# Altium footprint library vga.PcbLib: 95 footprints (part 1 of 7)
Each footprint in its own frame and in the unit in brackets; x right, y up, seen from the top. Pads: shape width x height; smd on the part's side, far side on the other; paste and mask are expansions set on the pad; w line width, h text height; cw(c..) or ccw(c..) is an arc to the next point about the centre after c.
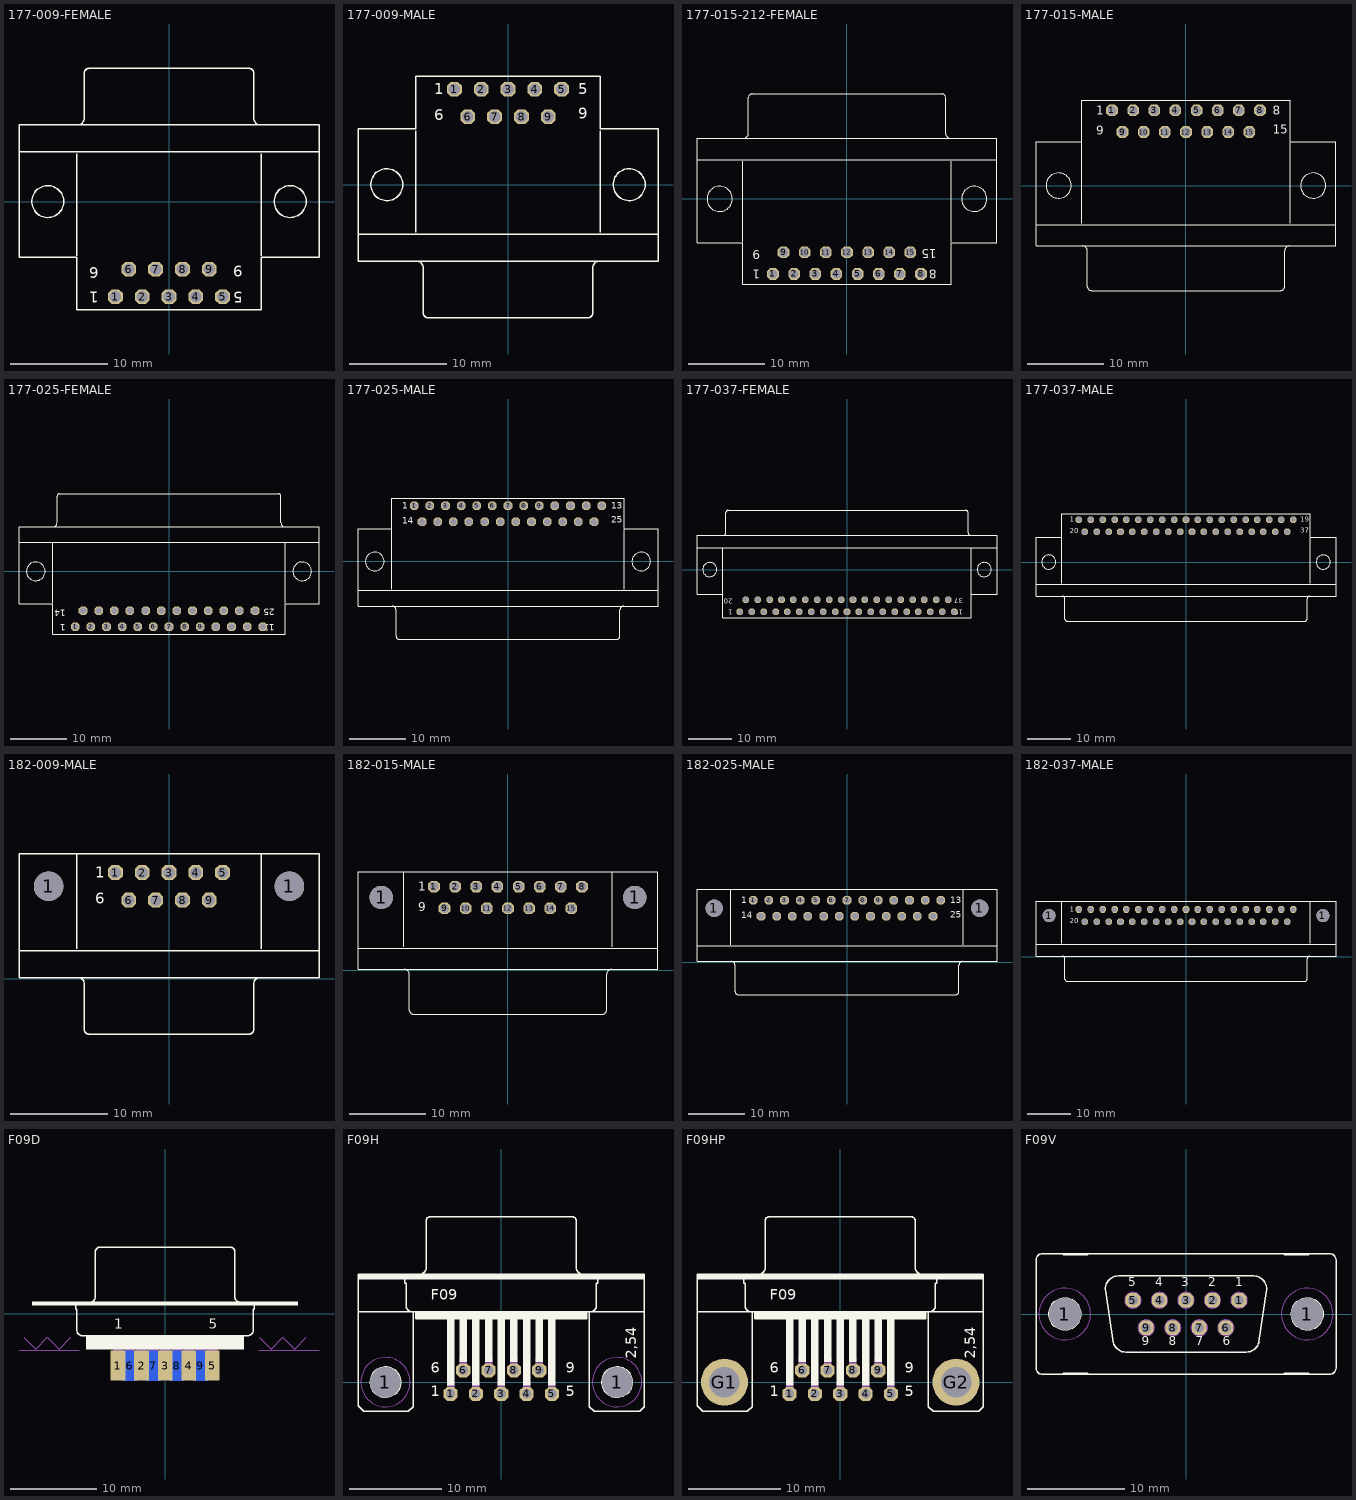
[diagram p0: the footprints below, top view; thin cyan lines are the x and y axes]

## 177-009-FEMALE [mil]
pads (9):
  oct 60x60 hole 47: 1(-218,-387.41) 2(-109,-387.41) 3(0,-387.41) 4(109,-387.41) 5(218,-387.41) 6(-163.5,-275.45) 7(-54.5,-275.45) 8(55,-275.45) 9(164,-275.45)
Top Overlay:
  circle w6: c493,0 r65
  circle w6: c-493,0 r65
  lines w6: -375,-219.96 -375,194 ; -370,312 ccw(c-370,337) -345,337 -345,522 cw(c-325,522) -325,542 325,542 cw(c325,522) 345,522 345,337 ccw(c370,337) 370,312 ; 375,-219.96 375,194 ; 610,202 -610,202 ; -610,202 -610,312 610,312 610,-226.38 375,-226.38 375,-439.96 -375,-439.96 -375,-226.38 -610,-226.38 -610,202
  text "9" at 300,-245.2 h77.5
  text "6" at -285,-250.2 h77.5
  text "1" at -285,-350.2 h77.5
  text "5" at 300,-350.2 h77.5
Mechanical 2:
  text ">NAME" at 350,-450 h108.5
Mechanical 4:
  text ">VALUE" at 300,-50 h108.5

## 177-009-MALE [mil]
pads (9):
  oct 60x60 hole 47: 1(-218,388) 2(-109,388) 3(0,388) 4(109,388) 5(218,388) 6(-163.5,276) 7(-54.5,276) 8(55,276) 9(164,276)
Top Overlay:
  circle w6: c493,0 r65
  circle w6: c-493,0 r65
  lines w6: -610,-201.38 610,-201.38 ; -375,-193.62 -375,220 ; -370,-311.38 cw(c-370,-336.38) -345,-336.38 -345,-521.38 ccw(c-325,-521.38) -325,-541.38 325,-541.38 ccw(c325,-521.38) 345,-521.38 345,-336.38 cw(c370,-336.38) 370,-311.38 ; 375,-193.62 375,220 ; 610,-201.38 610,227 375,227 375,440 -375,440 -375,227 -610,227 -610,-311.38 610,-311.38 610,-201.38
  text "1" at -300,351 h77.5
  text "5" at 285,351 h77.5
  text "9" at 285,251 h77.5
  text "6" at -300,246 h77.5
Mechanical 2:
  text ">NAME" at -350,450 h108.5
Mechanical 4:
  text ">VALUE" at -300,50 h108.5

## 177-015-212-FEMALE [mil]
pads (15):
  oct 60x60 hole 47: 1(-381.5,-387.41) 2(-272.5,-387.41) 3(-163.5,-387.41) 4(-54.5,-387.41) 5(55,-387.41) 6(164,-387.41) 7(273,-387.41) 8(382,-387.41) 9(-327,-275.45) 10(-218,-275.45) 11(-109,-275.45) 12(0,-275.45) 13(109,-275.45) 14(218,-275.45) 15(327,-275.45)
Top Overlay:
  circle w6: c-656.5,0 r65
  circle w6: c657,0 r65
  lines w6: -538.5,-219.96 -538.5,194 ; -533.5,312 ccw(c-533.5,337) -508.5,337 -508.5,522 cw(c-488.5,522) -488.5,542 489,542 cw(c489,522) 509,522 509,337 ccw(c534,337) 534,312 ; 539,-219.96 539,194 ; 774,202 -773.5,202 ; -773.5,202 -773.5,-226.38 -538.5,-226.38 -538.5,-439.96 539,-439.96 539,-226.38 774,-226.38 774,312 -773.5,312 -773.5,202
  text "8" at 464,-350.2 h77.5
  text "1" at -448.5,-350.2 h77.5
  text "9" at -448.5,-250.2 h77.5
  text "15" at 464,-245.2 h77.5
Mechanical 2:
  text ">NAME" at 514,-450 h108.5
Mechanical 4:
  text ">VALUE" at 464,-50 h108.5

## 177-015-MALE [mil]
pads (15):
  oct 60x60 hole 47: 1(-381.5,388) 2(-272.5,388) 3(-163.5,388) 4(-54.5,388) 5(55,388) 6(164,388) 7(273,388) 8(382,388) 9(-327,276) 10(-218,276) 11(-109,276) 12(0,276) 13(109,276) 14(218,276) 15(327,276)
Top Overlay:
  circle w6: c657,0 r65
  circle w6: c-656.5,0 r65
  lines w6: -773.5,-201.38 774,-201.38 ; -538.5,-193.62 -538.5,220 ; -533.5,-311.38 cw(c-533.5,-336.38) -508.5,-336.38 -508.5,-521.38 ccw(c-488.5,-521.38) -488.5,-541.38 489,-541.38 ccw(c489,-521.38) 509,-521.38 509,-336.38 cw(c534,-336.38) 534,-311.38 ; 539,-193.62 539,220 ; 774,-201.38 774,227 539,227 539,440 -538.5,440 -538.5,227 -773.5,227 -773.5,-311.38 774,-311.38 774,-201.38
  text "1" at -463.5,351 h77.5
  text "8" at 449,351 h77.5
  text "15" at 449,251 h77.5
  text "9" at -463.5,246 h77.5
Mechanical 2:
  text ">NAME" at -513.5,450 h108.5
Mechanical 4:
  text ">VALUE" at -463.5,50 h108.5

## 177-025-FEMALE [mil]
pads (25):
  oct 60x60 hole 47: 1(-654,-387.41) 2(-545,-387.41) 3(-436,-387.41) 4(-327,-387.41) 5(-218,-387.41) 6(-109,-387.41) 7(0,-387.41) 8(109,-387.41) 9(218,-387.41) 10(327,-387.41) 11(436,-387.41) 12(545,-387.41) 13(654,-387.41) 14(-599.5,-275.45) 15(-490.5,-275.45) 16(-381.5,-275.45) 17(-272.5,-275.45) 18(-163.5,-275.45) 19(-54.5,-275.45) 20(55,-275.45) 21(164,-275.45) 22(273,-275.45) 23(382,-275.45) 24(491,-275.45) 25(600,-275.45)
Top Overlay:
  circle w6: c-929,0 r65
  circle w6: c929,0 r65
  lines w6: -811,-219.96 -811,194 ; -806,312 ccw(c-806,337) -781,337 -781,522 cw(c-761,522) -761,542 761,542 cw(c761,522) 781,522 781,337 ccw(c806,337) 806,312 ; 811,-219.96 811,194 ; 1046,202 -1046,202 ; -1046,202 -1046,-226.38 -811,-226.38 -811,-439.96 811,-439.96 811,-226.38 1046,-226.38 1046,312 -1046,312 -1046,202
  text "13" at 736,-350.2 h77.5
  text "1" at -721,-350.2 h77.5
  text "14" at -721,-250.2 h77.5
  text "25" at 736,-245.2 h77.5
Mechanical 2:
  text ">NAME" at 786,-450 h108.5
Mechanical 4:
  text ">VALUE" at 736,-50 h108.5

## 177-025-MALE [mil]
pads (25):
  oct 60x60 hole 47: 1(-654,388) 2(-545,388) 3(-436,388) 4(-327,388) 5(-218,388) 6(-109,388) 7(0,388) 8(109,388) 9(218,388) 10(327,388) 11(436,388) 12(545,388) 13(654,388) 14(-599.5,276) 15(-490.5,276) 16(-381.5,276) 17(-272.5,276) 18(-163.5,276) 19(-54.5,276) 20(55,276) 21(164,276) 22(273,276) 23(382,276) 24(491,276) 25(600,276)
Top Overlay:
  circle w6: c929,0 r65
  circle w6: c-929,0 r65
  lines w6: -1046,-201.38 1046,-201.38 ; -811,-193.62 -811,220 ; -806,-311.38 cw(c-806,-336.38) -781,-336.38 -781,-521.38 ccw(c-761,-521.38) -761,-541.38 761,-541.38 ccw(c761,-521.38) 781,-521.38 781,-336.38 cw(c806,-336.38) 806,-311.38 ; 811,-193.62 811,220 ; 1046,-201.38 1046,227 811,227 811,440 -811,440 -811,227 -1046,227 -1046,-311.38 1046,-311.38 1046,-201.38
  text "1" at -736,351 h77.5
  text "13" at 721,351 h77.5
  text "25" at 721,251 h77.5
  text "14" at -736,246 h77.5
Mechanical 2:
  text ">NAME" at -786,450 h108.5
Mechanical 4:
  text ">VALUE" at -736,50 h108.5

## 177-037-FEMALE [mil]
pads (37):
  oct 60x60 hole 47: 1(-981,-387.41) 2(-872,-387.41) 3(-763,-387.41) 4(-654,-387.41) 5(-545,-387.41) 6(-436,-387.41) 7(-327,-387.41) 8(-218,-387.41) 9(-109,-387.41) 10(0,-387.41) 11(109,-387.41) 12(218,-387.41) 13(327,-387.41) 14(436,-387.41) 15(545,-387.41) 16(654,-387.41) 17(763,-387.41) 18(872,-387.41) 19(981,-387.41) 20(-926.5,-275.45) 21(-817.5,-275.45) 22(-708.5,-275.45) 23(-599.5,-275.45) 24(-490.5,-275.45) 25(-381.5,-275.45) 26(-272.5,-275.45) 27(-163.5,-275.45) 28(-54.5,-275.45) 29(55,-275.45) 30(164,-275.45) 31(273,-275.45) 32(382,-275.45) 33(491,-275.45) 34(600,-275.45) 35(709,-275.45) 36(818,-275.45) 37(927,-275.45)
Top Overlay:
  circle w6: c-1256,0 r65
  circle w6: c1256,0 r65
  lines w6: -1138,-219.96 -1138,194 ; -1133,312 ccw(c-1133,337) -1108,337 -1108,522 cw(c-1088,522) -1088,542 1088,542 cw(c1088,522) 1108,522 1108,337 ccw(c1133,337) 1133,312 ; 1138,-219.96 1138,194 ; 1373,202 -1373,202 ; -1373,202 -1373,-226.38 -1138,-226.38 -1138,-439.96 1138,-439.96 1138,-226.38 1373,-226.38 1373,312 -1373,312 -1373,202
  text "19" at 1063,-350.2 h77.5
  text "1" at -1048,-350.2 h77.5
  text "20" at -1048,-250.2 h77.5
  text "37" at 1063,-245.2 h77.5
Mechanical 2:
  text ">NAME" at 1113,-450 h108.5
Mechanical 4:
  text ">VALUE" at 1063,-50 h108.5

## 177-037-MALE [mil]
pads (37):
  oct 60x60 hole 47: 1(-981,388) 2(-872,388) 3(-763,388) 4(-654,388) 5(-545,388) 6(-436,388) 7(-327,388) 8(-218,388) 9(-109,388) 10(0,388) 11(109,388) 12(218,388) 13(327,388) 14(436,388) 15(545,388) 16(654,388) 17(763,388) 18(872,388) 19(981,388) 20(-926.5,276) 21(-817.5,276) 22(-708.5,276) 23(-599.5,276) 24(-490.5,276) 25(-381.5,276) 26(-272.5,276) 27(-163.5,276) 28(-54.5,276) 29(55,276) 30(164,276) 31(273,276) 32(382,276) 33(491,276) 34(600,276) 35(709,276) 36(818,276) 37(927,276)
Top Overlay:
  circle w6: c1256,0 r65
  circle w6: c-1256,0 r65
  lines w6: -1373,-201.38 1373,-201.38 ; -1138,-193.62 -1138,220 ; -1133,-311.38 cw(c-1133,-336.38) -1108,-336.38 -1108,-521.38 ccw(c-1088,-521.38) -1088,-541.38 1088,-541.38 ccw(c1088,-521.38) 1108,-521.38 1108,-336.38 cw(c1133,-336.38) 1133,-311.38 ; 1138,-193.62 1138,220 ; 1373,-201.38 1373,227 1138,227 1138,440 -1138,440 -1138,227 -1373,227 -1373,-311.38 1373,-311.38 1373,-201.38
  text "1" at -1063,351 h77.5
  text "19" at 1048,351 h77.5
  text "37" at 1048,251 h77.5
  text "20" at -1063,246 h77.5
Mechanical 2:
  text ">NAME" at -1113,450 h108.5
Mechanical 4:
  text ">VALUE" at -1063,50 h108.5

## 182-009-MALE [mil]
pads (11):
  round 120 hole 120: 1(-490,375) 1(490,375)
  oct 60x60 hole 47: 1(-218,431) 2(-109,431) 3(0,431) 4(109,431) 5(218,431) 6(-163.5,319) 7(-54.5,319) 8(55,319) 9(164,319)
Top Overlay:
  lines w6: -610,114 610,114 ; -610,507 -610,4 610,4 610,114 ; -610,508 610,508 ; -375,122 -375,507 ; -370,4 cw(c-370.21,-21.21) -345,-21.42 -345,-206.42 ccw(c-325,-206.42) -325,-226.42 325,-226.42 ccw(c325,-206.42) 345,-206.42 345,-21.42 cw(c370.21,-21.21) 370,4 ; 375,122 375,507 ; 610,507 610,114
  text "1" at -300,393 h77.5
  text "6" at -300,288 h77.5
Mechanical 2:
  text ">NAME" at -364,525 h108.5
Mechanical 4:
  text ">VALUE" at 86,525 h108.5

## 182-015-MALE [mil]
pads (17):
  round 120 hole 120: 1(-653.5,375) 1(654,375)
  oct 60x60 hole 47: 1(-381.5,431) 2(-272.5,431) 3(-163.5,431) 4(-54.5,431) 5(55,431) 6(164,431) 7(273,431) 8(382,431) 9(-327,319) 10(-218,319) 11(-109,319) 12(0,319) 13(109,319) 14(218,319) 15(327,319)
Top Overlay:
  lines w6: -773.5,114 774,114 ; -773.5,507 -773.5,4 774,4 774,114 ; -773.5,508 774,508 ; -538.5,122 -538.5,507 ; -533.5,4 cw(c-533.71,-21.21) -508.5,-21.42 -508.5,-206.42 ccw(c-488.5,-206.42) -488.5,-226.42 489,-226.42 ccw(c489,-206.42) 509,-206.42 509,-21.42 cw(c534.21,-21.21) 534,4 ; 539,122 539,507 ; 774,507 774,114
  text "1" at -463.5,393 h77.5
  text "9" at -463.5,288 h77.5
Mechanical 2:
  text ">NAME" at -527.5,525 h108.5
Mechanical 4:
  text ">VALUE" at -77.5,525 h108.5

## 182-025-MALE [mil]
pads (27):
  round 120 hole 120: 1(-926,375) 1(926,375)
  oct 60x60 hole 47: 1(-654,431) 2(-545,431) 3(-436,431) 4(-327,431) 5(-218,431) 6(-109,431) 7(0,431) 8(109,431) 9(218,431) 10(327,431) 11(436,431) 12(545,431) 13(654,431) 14(-599.5,319) 15(-490.5,319) 16(-381.5,319) 17(-272.5,319) 18(-163.5,319) 19(-54.5,319) 20(55,319) 21(164,319) 22(273,319) 23(382,319) 24(491,319) 25(600,319)
Top Overlay:
  lines w6: -1046,114 1046,114 ; -1046,507 -1046,4 1046,4 1046,114 ; -1046,508 1046,508 ; -811,122 -811,507 ; -806,4 cw(c-806.21,-21.21) -781,-21.42 -781,-206.42 ccw(c-761,-206.42) -761,-226.42 761,-226.42 ccw(c761,-206.42) 781,-206.42 781,-21.42 cw(c806.21,-21.21) 806,4 ; 811,122 811,507 ; 1046,507 1046,114
  text "1" at -736,393 h77.5
  text "13" at 721,393 h77.5
  text "25" at 721,293 h77.5
  text "14" at -736,288 h77.5
Mechanical 2:
  text ">NAME" at -800,525 h108.5
Mechanical 4:
  text ">VALUE" at -350,525 h108.5

## 182-037-MALE [mil]
pads (39):
  round 120 hole 120: 1(-1253,375) 1(1253,375)
  oct 60x60 hole 47: 1(-981,431) 2(-872,431) 3(-763,431) 4(-654,431) 5(-545,431) 6(-436,431) 7(-327,431) 8(-218,431) 9(-109,431) 10(0,431) 11(109,431) 12(218,431) 13(327,431) 14(436,431) 15(545,431) 16(654,431) 17(763,431) 18(872,431) 19(981,431) 20(-926.5,319) 21(-817.5,319) 22(-708.5,319) 23(-599.5,319) 24(-490.5,319) 25(-381.5,319) 26(-272.5,319) 27(-163.5,319) 28(-54.5,319) 29(55,319) 30(164,319) 31(273,319) 32(382,319) 33(491,319) 34(600,319) 35(709,319) 36(818,319) 37(927,319)
Top Overlay:
  lines w6: -1373,114 1373,114 ; -1373,507 -1373,4 1373,4 1373,114 ; -1373,508 1373,508 ; -1138,122 -1138,507 ; -1133,4 cw(c-1133.21,-21.21) -1108,-21.42 -1108,-206.42 ccw(c-1088,-206.42) -1088,-226.42 1088,-226.42 ccw(c1088,-206.42) 1108,-206.42 1108,-21.42 cw(c1133.21,-21.21) 1133,4 ; 1138,122 1138,507 ; 1373,507 1373,114
  text "1" at -1063,393 h77.5
  text "20" at -1063,288 h77.5
Mechanical 2:
  text ">NAME" at -1127,525 h108.5
Mechanical 4:
  text ">VALUE" at -677,525 h108.5

## F09D [mil]
pads (9):
  rect 67x138 smd: 1(-215.99,-237.98) 2(-108.01,-237.98) 3(0,-237.99) 4(109,-237.98) 5(216,-237.98)
  rect 67x138 smd far side: 6(-162,-238) 7(-54,-238) 8(54,-238) 9(162,-238)
Top Overlay:
  rectangle: -610,37 610,57
  rectangle: -362.2,-163.78 363,-100.79
  lines w6: -410,40 -410,20 -405,20 -405,-75 ccw(c-380,-75) -380,-100 ; -380.75,-100 381,-100 ; -345,53 ccw(c-345,78) -320,78 -320,285 cw(c-300,285) -300,305 300,305 cw(c300,285) 320,285 320,78 ccw(c345,78) 345,53 ; 380,-100 ccw(c380,-75) 405,-75 405,20 410,20 410,40
  text "1" at -233.07,-85.77 h77.5
  text "5" at 201,-85.77 h77.5
Bottom Overlay:
  text "9" at 179,-86.48 h77.5
  text "6" at -140.82,-86.48 h77.5
Mechanical 2:
  text ">NAME" at -350,-400 h108.5
Mechanical 4:
  text ">VALUE" at 50,-400 h108.5
Mechanical 13:
  lines w0: -670,-167 -394,-167 ; -648,-108 -594,-162 -540,-108 -486,-162 -432,-108 ; 430,-167 706,-167 ; 432,-108 486,-162 540,-108 594,-162 648,-108
  text "Board" at 450,-100 h77.5
  text "Board" at -650,-100 h77.5
Mechanical 16:
  rectangle: -239.62,-258.27 -192.38,-159.84
  rectangle: -131.62,-258.27 -84.38,-159.84
  rectangle: -23.62,-258.27 24,-159.84
  rectangle: 85,-258.27 132,-159.84
  rectangle: 193,-258.27 240,-159.84
  text "F09D" at -300,235 h77.5
Mechanical 30:
  rectangle: -185.62,-258.27 -138.38,-159.84
  rectangle: -77.62,-258.27 -30.38,-159.84
  rectangle: 31,-258.27 78,-159.84
  rectangle: 139,-258.27 186,-159.84

## F09H [mil]
pads (11):
  round 130 hole 130: 1(-493,0) 1(493,0)
  oct 60x60 hole 40: 1(-216,-50) 2(-108,-50) 3(0,-50) 4(108,-50) 5(216,-50) 6(-162,50) 7(-54,50) 8(54,50) 9(162,50)
Top Overlay:
  circle w6: c-493,0 r65
  circle w6: c493,0 r65
  rectangle: -365,270 365,300
  rectangle: -610,440 610,460
  rectangle: -232,-15 -200,270
  rectangle: -178,85 -146,270
  rectangle: -124,-15 -92,270
  rectangle: -70,85 -38,270
  rectangle: -16,-15 16,270
  rectangle: 38,85 70,270
  rectangle: 92,-15 124,270
  rectangle: 146,85 178,270
  rectangle: 200,-15 232,270
  lines w6: -380,300 cw(c-380,325) -405,325 -405,420 -410,420 -410,440 ; -345,460 ccw(c-345,485) -320,485 -320,685 cw(c-300,685) -300,705 -290,705 290,705 300,705 cw(c300,685) 320,685 320,485 ccw(c345,485) 345,460 ; 380,300 ccw(c380,325) 405,325 405,420 410,420 410,440 ; -610,300 -410,300 -375,300 ; -610,300 -610,420 -610,440 ; -610,300 -610,295 -610,-100 -585,-125 -395,-125 -375,-105 -375,300 ; -610,440 -610,460 -305,460 305,460 610,460 610,440 ; -610,440 -510,440 -410,440 ; -410,440 410,440 ; -375,300 -365,300 ; -365,300 -365,270 365,270 365,300 ; -365,300 365,300 ; 365,300 375,300 ; 375,300 410,300 610,300 ; 375,300 375,-105 395,-125 590,-125 610,-105 610,295 610,300 ; 410,440 510,440 610,440 ; 610,300 610,420 610,440
  text "1" at -300,-75 h77.5
  text "5" at 275,-75 h77.5
  text "9" at 275,25 h77.5
  text "6" at -300,25 h77.5
  text "2,54" at 590,100 h77.5
  text "F09" at -300,335 h77.5
Mechanical 2:
  text ">NAME" at -600,-250 h108.5
Mechanical 4:
  text ">VALUE" at -200,550 h108.5
Mechanical 9:
  circle w0: c-493,0 r105
  circle w0: c493,0 r105
Mechanical 10:
  circle w0: c-493,0 r105
  circle w0: c493,0 r105
Mechanical 16:
  lines w32: -216,-45 -216,-5 ; -162,55 -162,95 ; -108,-45 -108,-5 ; -54,55 -54,95 ; 0,-45 0,-5 ; 54,55 54,95 ; 108,-45 108,-5 ; 162,55 162,95 ; 216,-45 216,-5

## F09HP [mil]
pads (11):
  oct 60x60 hole 40: 1(-216,-50) 2(-108,-50) 3(0,-50) 4(108,-50) 5(216,-50) 6(-162,50) 7(-54,50) 8(54,50) 9(162,50)
  round 200 hole 130: G1(-493,0) G2(493,0)
Top Overlay:
  circle w6: c-493,0 r65
  circle w6: c493,0 r65
  rectangle: -365,270 365,300
  rectangle: -610,440 610,460
  rectangle: -232,-15 -200,270
  rectangle: -178,85 -146,270
  rectangle: -124,-15 -92,270
  rectangle: -70,85 -38,270
  rectangle: -17,-15 15,270
  rectangle: 37,85 69,270
  rectangle: 92,-15 124,270
  rectangle: 146,85 178,270
  rectangle: 200,-15 232,270
  lines w6: -380,300 cw(c-380,325) -405,325 -405,420 -410,420 -410,440 ; -345,460 ccw(c-345,485) -320,485 -320,685 cw(c-300,685) -300,705 -290,705 290,705 300,705 cw(c300,685) 320,685 320,485 ccw(c345,485) 345,460 ; 380,300 ccw(c380,325) 405,325 405,420 410,420 410,440 ; -610,300 -410,300 -375,300 ; -610,300 -610,420 -610,440 ; -610,300 -610,295 -610,-100 -585,-125 -395,-125 -375,-105 -375,300 ; -610,440 -610,460 -305,460 305,460 610,460 610,440 ; -610,440 -510,440 -410,440 ; -410,440 410,440 ; -375,300 -365,300 ; -365,300 -365,270 365,270 365,300 ; -365,300 365,300 ; 365,300 375,300 ; 375,300 410,300 610,300 ; 375,300 375,-105 395,-125 590,-125 610,-105 610,295 610,300 ; 410,440 510,440 610,440 ; 610,300 610,420 610,440
  text "1" at -300,-75 h77.5
  text "5" at 275,-75 h77.5
  text "9" at 275,25 h77.5
  text "6" at -300,25 h77.5
  text "2,54" at 590,100 h77.5
  text "F09" at -300,335 h77.5
Mechanical 2:
  text ">NAME" at -600,-250 h108.5
Mechanical 4:
  text ">VALUE" at -200,550 h108.5
Mechanical 16:
  lines w32: -216,-45 -216,-5 ; -162,55 -162,95 ; -108,-45 -108,-5 ; -54,55 -54,95 ; 0,-45 0,-5 ; 53,55 53,95 ; 108,-45 108,-5 ; 162,55 162,95 ; 216,-45 216,-5

## F09V [mil]
pads (11):
  round 130 hole 130: 1(-493,0) 1(493,0)
  oct 60x60 hole 40: 1(216,56) 2(108,56) 3(0,56) 4(-108,56) 5(-216,56) 6(162,-56) 7(54,-56) 8(-54,-56) 9(-162,-56)
Top Overlay:
  circle w6: c-493,0 r65
  circle w6: c493,0 r65
  lines w6: -327,92 -296,-116 ; -326.97,92 cw(c-275.16,102.2) -275,155 275,155 cw(c275.22,102.06) 327,91 296,-115 ; -296.3,-115.33 ccw(c-245,-102) -245,-155 245,-155 ccw(c245.23,-101.7) 297,-114.37 ; -500,-245 -500,-240 -400,-240 -400,-245 ; -500,-245 -400,-245 ; -500,-245 -585,-245 cw(c-585,-220) -610,-220 -610,220 cw(c-585,220) -585,245 -500,245 ; -500,245 -500,240 -400,240 -400,245 ; -500,245 -400,245 ; -400,-245 400,-245 ; -400,245 400,245 ; 400,-245 400,-240 500,-240 500,-245 ; 400,-245 500,-245 ; 400,245 400,240 500,240 500,245 ; 400,245 500,245 ; 500,-245 585,-245 ccw(c585,-220) 610,-220 610,220 ccw(c585,220) 585,245 500,245
  text "1" at 200,100 h60.45
  text "2" at 90,100 h60.45
  text "3" at -20,100 h60.45
  text "4" at -125,100 h60.45
  text "5" at -235,100 h60.45
  text "6" at 150,-140 h60.45
  text "7" at 40,-140 h60.45
  text "8" at -70,-140 h60.45
  text "9" at -180,-140 h60.45
Mechanical 2:
  text ">NAME" at -605,275 h108.5
Mechanical 4:
  text ">VALUE" at -100,275 h108.5
Mechanical 9:
  circle w0: c-493,0 r105
  circle w0: c493,0 r105
Mechanical 10:
  circle w0: c-493,0 r105
  circle w0: c493,0 r105
Mechanical 16:
  circle w10: c54,-56 r30
  circle w10: c108,56 r30
  circle w10: c162,-56 r30
  circle w10: c216,56 r30
  circle w10: c0,56 r30
  circle w10: c-54,-56 r30
  circle w10: c-108,56 r30
  circle w10: c-162,-56 r30
  circle w10: c-216,56 r30